# Altium schematic symbol library logic.SchLib: 1 symbol
Pins are listed as number, name and electrical type; pins without a type are passive.

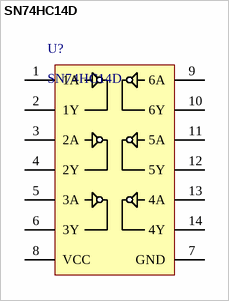
[diagram p0: symbol SN74HC14D]

## SN74HC14D
designator U?
Schmitt Inverting Trigger
footprint SO14_1.27
pins: 1 1A, 2 1Y, 3 2A, 4 2Y, 5 3A, 6 3Y, 7 GND, 8 VCC, 9 6A, 10 6Y, 11 5A, 12 5Y, 13 4A, 14 4Y